# Altium schematic symbol library MY DB LIBRARY.SchLib: 16 symbols
Pins are listed as number, name and electrical type; pins without a type are passive.

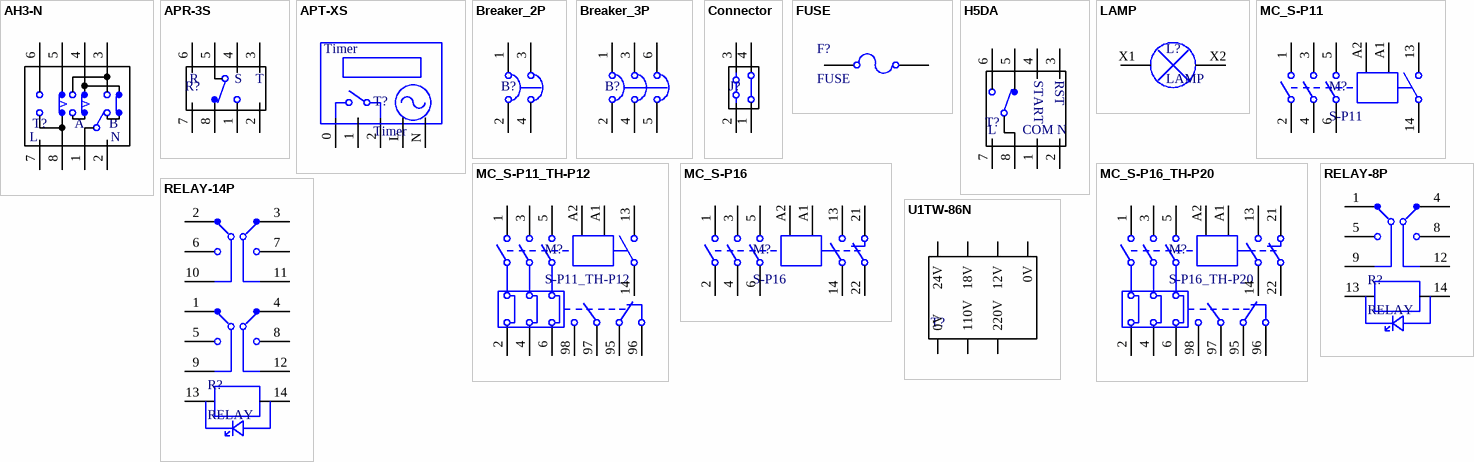
[diagram p0: symbols AH3-N to U1TW-86N]

## AH3-N
designator T?, comment ANALOGUE TIMER  (value not drawn)
footprint AH3-NC
pins: 1, 2, 3, 4, 5, 6, 7, 8
text: A; B; L; N

## APR-3S
designator R?, comment 3-PHASE SEQUENCE VOLTAGE RELAY  (value not drawn)
footprint APR-3S
pins: 1, 2, 3, 4, 5, 6, 7, 8
text: R; S; T

## APT-XS
designator T?, comment Timer
footprint APT6S
footprint APT9S
pins: 0, 1, 2, L 3, N 4

## Breaker_2P
designator B?, comment Breaker  (value not drawn)
footprint BREAKER_2P_L
footprint BREAKER_2P_M
pins: 1, 2, 3, 4

## Breaker_3P
designator B?, comment Breaker  (value not drawn)
footprint BREAKER_3P_L
footprint BREAKER_3P_M
pins: 1, 2, 3, 4, 5, 6

## Connector
designator J?  (value not drawn)
footprint Connector_1P (Tterminal block connector)
pins: 1, 2, 3, 4

## FUSE
designator F?
footprint FUSE_L
footprint FUSE_M
pins: 1, 2

## H5DA
designator T?, comment COUNTER/TIMER  (value not drawn)
footprint H5DA (Counter/Timer)
pins: 1, 2, 3, 4, 5, 6, 7, 8
text: START; RST; L; COM; N

## LAMP
designator L?
footprint LAMP_AD16-22DS
pins: X1, X2

## MC_S-P11
designator M?, comment S-P11
footprint S-P11
pins: 1, 2, 3, 4, 5, 6, 13, 14, A1, A2

## MC_S-P11_TH-P12
designator M?, comment S-P11_TH-P12
footprint S-P11_TH-P12
pins: 1, 2, 3, 4, 5, 6, 13, 14, 95, 96, 97, 98, A1, A2

## MC_S-P16
designator M?, comment S-P16
footprint S-P16
pins: 1, 2, 3, 4, 5, 6, 13, 14, 21, 22, A1, A2

## MC_S-P16_TH-P20
designator M?, comment S-P16_TH-P20
footprint S-P16_TH-P20
pins: 1, 2, 3, 4, 5, 6, 13, 14, 21, 22, 95, 96, 97, 98, A1, A2

## RELAY-8P
designator R?, comment RELAY
footprint RELAY-8P
pins: 1, 4, 5, 8, 9, 12, 13, 14

## RELAY-14P
designator R?, comment RELAY
footprint RELAY-14P
pins: 1, 2, 3, 4, 5, 6, 7, 8, 9, 10, 11, 12, 13, 14

## U1TW-86N
designator T?  (value not drawn)
Transformer
footprint U1TW-86N
pins: 1 0V, 2 110V, 3 220V, 4 24V, 5 18V, 6 12V, 7 0V